# EAGLE library part 1-292227-0 (library te)
1.5mm AMP Mini CT Connectors
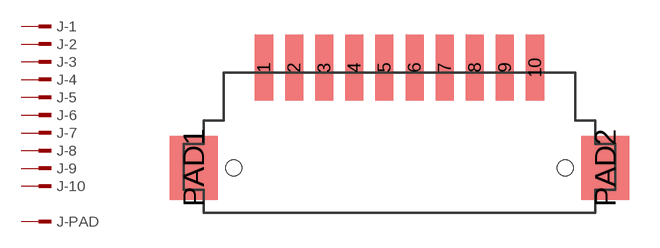
[diagram p0: symbol with the pads of 1-292227-0; footprint 1-292227-0]

Designator prefix J; gates -1=MPIN -2=MPIN -3=MPIN -4=MPIN -5=MPIN -6=MPIN -7=MPIN -8=MPIN -9=MPIN -10=MPIN -PAD=MPIN

## 1-292227-0 (DISTRIBUTOR: Digikey; OC_DIGIKEY: A98703CT-ND; ORDER_CODE: A98703CT-ND)  [1-292227-0]
1  -1:1  pas
2  -2:1  pas
3  -3:1  pas
4  -4:1  pas
5  -5:1  pas
6  -6:1  pas
7  -7:1  pas
8  -8:1  pas
9  -9:1  pas
10  -10:1  pas
PAD1  -PAD:1  pas
PAD2  -PAD:1  pas

## Footprint 1-292227-0 (pad centres in mm)
smd 0.9 x 3.3: 1 -6.75,5; 2 -5.25,5; 3 -3.75,5; 4 -2.25,5; 5 -0.75,5; 6 0.75,5; 7 2.25,5; 8 3.75,5; 9 5.25,5; 10 6.75,5
smd 2.4 x 3.2: PAD1 -10.25,0; PAD2 10.25,0
hole 0.8 at 8.25,0
hole 0.8 at -8.25,0